# EAGLE library part AD8218BRMZ-R7 (library AD8218BRMZ-R7)
Current Sense Amplifiers ZeroDrift BiDirectional Current SenseAmp Source: Datasheet <https://www.analog.com/media/en/technical-documentation/data-sheets/AD8218.pdf>
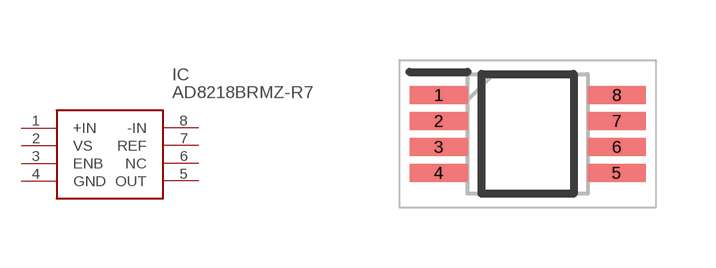
[diagram p0: symbol with the pads of SOP65P490X110-8N; footprint SOP65P490X110-8N]

Designator prefix IC

## AD8218BRMZ-R7 (Description: Current Sense Amplifiers ZeroDrift BiDirectional Current SenseAmp; Height: 1.1mm; Manufacturer_Name: Analog Devices; Manufacturer_Part_Number: AD8218BRMZ-R7; Mouser_Part_Number: 584-AD8218BRMZ-R7; Mouser_Price-Stock: https://www.mouser.co.uk/ProductDetail/Analog-Devices/AD8218BRMZ-R7?qs=%2FtpEQrCGXCz70zc1CjCIWQ%3D%3D)  [SOP65P490X110-8N]
1  +IN
2  VS
3  ENB
4  GND
5  OUT
6  NC  nc
7  REF
8  -IN

## Footprint SOP65P490X110-8N (pad centres in mm)
RM-8 (MSOP)
smd 1.45 x 0.45: 1 -2.225,0.975; 2 -2.225,0.325; 3 -2.225,-0.325; 4 -2.225,-0.975; 5 2.225,-0.975; 6 2.225,-0.325; 7 2.225,0.325; 8 2.225,0.975